# Altium footprint library LEDs.PcbLib: 46 footprints (part 1 of 3)
Each footprint in its own frame and in the unit in brackets; x right, y up, seen from the top. Pads: shape width x height; smd on the part's side, far side on the other; paste and mask are expansions set on the pad; w line width, h text height; cw(c..) or ccw(c..) is an arc to the next point about the centre after c.
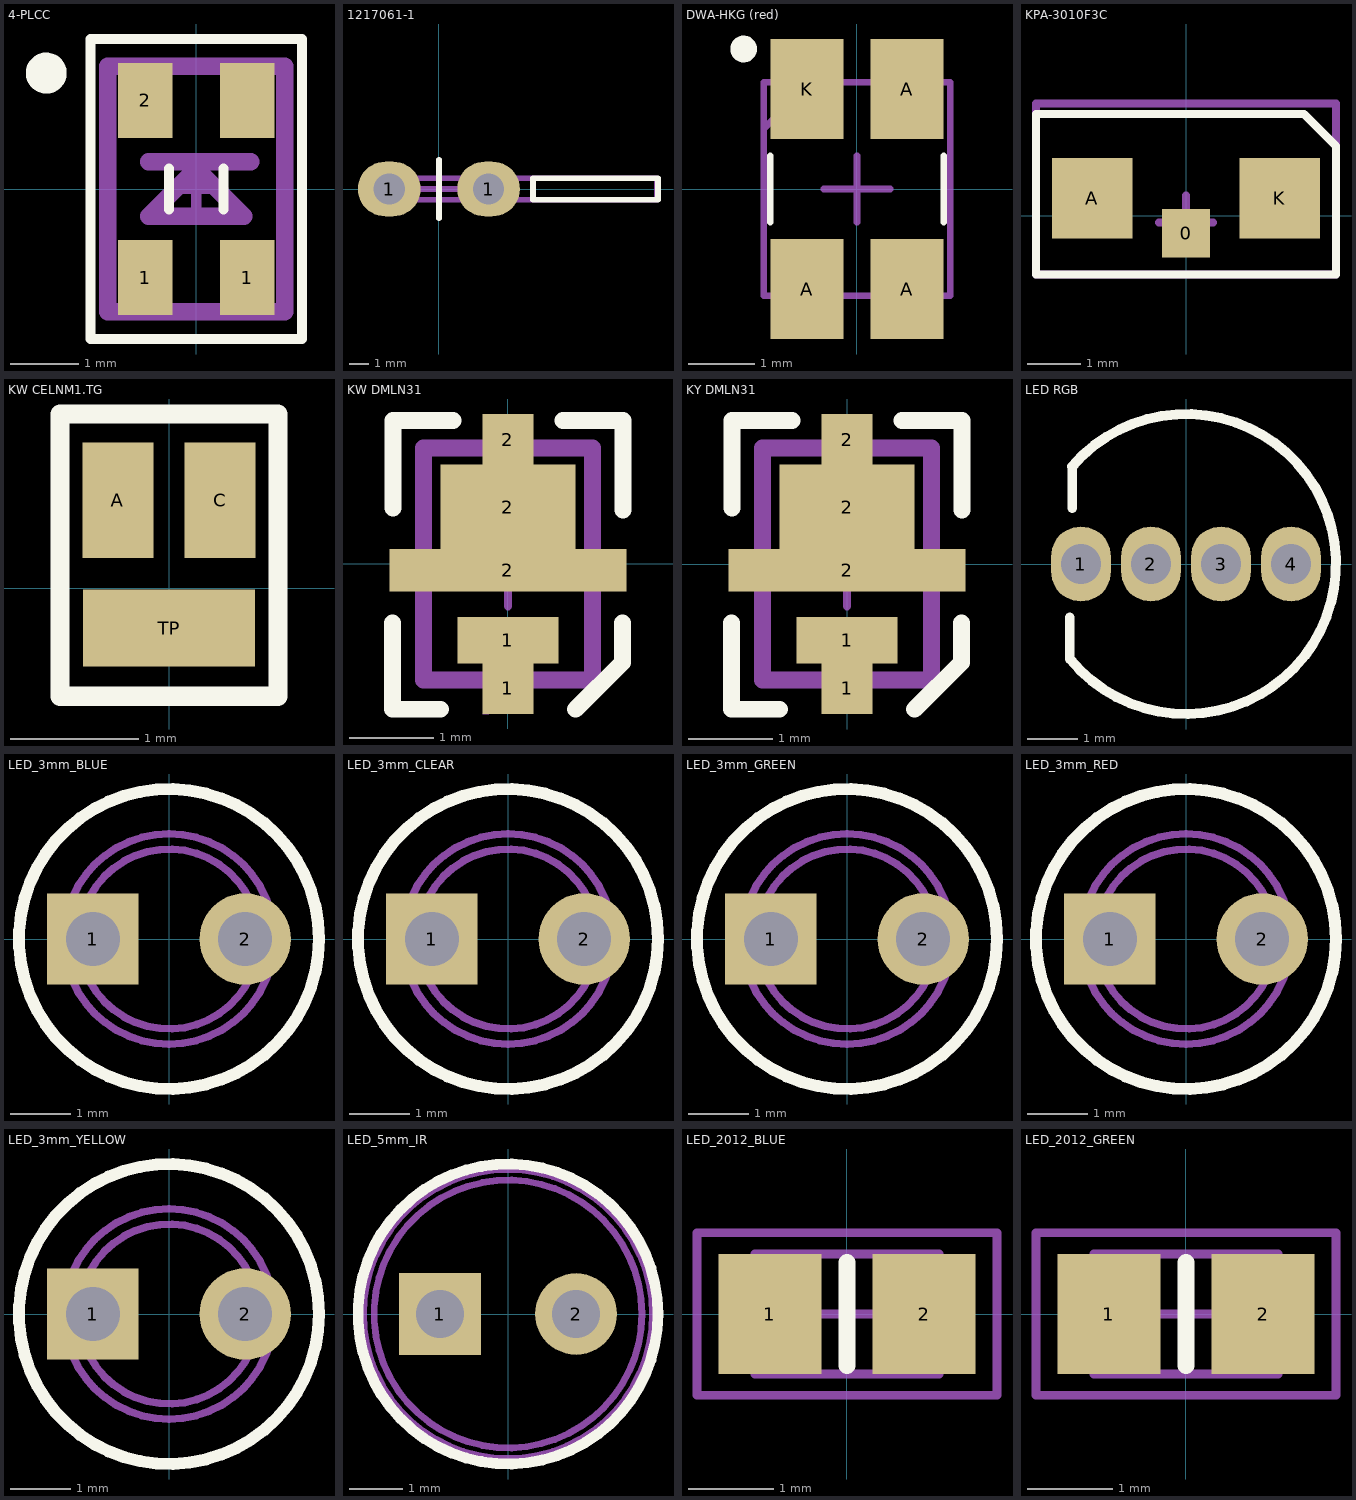
[diagram p0: the footprints below, top view; thin cyan lines are the x and y axes]

## 4-PLCC [mm]
height 2.55
pads (4):
  rect 0.8x1.1 smd: 1(-0.75,-1.3) 1(0.75,-1.3) 2(-0.75,1.3) ""(0.75,1.3)
Top Overlay:
  circle w0.3: c-2.2,1.7 r0.15
  lines w0.15: -0.4,-0.3 -0.4,0.3 ; 0.4,-0.3 0.4,0.3 ; -1.55,-2.2 1.55,-2.2 1.55,2.2 -1.55,2.2 -1.55,-2.2
Mechanical 13:
  lines w0.254: -0.7,0.4 0.8,0.4 ; -0.7,-0.4 0.7,-0.4 0,0.3 -0.7,-0.4
Mechanical 15:
  lines w0.15: -0.4,0 0.4,0 ; 0,-0.4 0,0.4
  lines w0.254: -1.3,-1.8 1.3,-1.8 1.3,1.8 -1.3,1.8 -1.3,-1.8
3D body "User Library-4-plcc_LED.step": height 2.03, standoff 0, extent -1.35,-1.75 1.35,1.75

## 1217061-1 [mm]
pads (2):
  oval 3.2x2.8 hole 1.6 mask+0.102: 1(-2.54,0) 1(2.54,0)
Top Overlay:
  lines w0.3: 0,-1.5 0,1.5 ; 4.81,-0.55 11.21,-0.55 11.21,0.55 4.81,0.55 4.81,-0.55
Mechanical 15:
  lines w0.3: -1,0 1,0 ; 0,-1 0,1 ; -3.3,-0.55 11.15,-0.55 11.15,0.55 -3.3,0.55 -3.3,-0.55
3D body "c-1217061-1-g-3d.stp": height 7.47, standoff -3.8, extent -3.54,-0.4 11.065,0.4

## DWA-HKG (red) [mm] "PLCC-4"
pads (4):
  rect 1.1x1.5 smd: A(-0.75,-1.5) A(0.75,-1.5) A(0.75,1.5) K(-0.75,1.5)
Top Overlay:
  circle w0.2: c-1.7,2.1 r0.1
  lines w0.1: -1.3,-0.5 -1.3,0.5 ; 1.3,-0.5 1.3,0.5
Mechanical 15:
  lines w0.1: -1.4,0.9 -0.7,1.6 ; -0.5,0 0.5,0 ; 0,-0.5 0,0.5 ; -1.4,-1.6 -1.4,1.6 1.4,1.6 1.4,-1.6 -1.4,-1.6
3D body "User Library-Osram_Led_PLCC4-1 (1).STEP": height 1.95, standoff 0, extent -1.4,-1.75 1.4,1.75

## KPA-3010F3C [mm]
pads (3):
  rect 0.9x0.9 smd: 0(0,-0.325)
  rect 1.5x1.5 smd: A(-1.75,0.325) K(1.75,0.325)
Top Overlay:
  lines w0.15: -2.8,-1.1 2.8,-1.1 2.8,1.3 2.2,1.9 -2.8,1.9 -2.8,-1.1
Mechanical 15:
  lines w0.15: -0.5,-0.125 0.5,-0.125 ; 0,-0.625 0,0.375 ; -2.8,-1.1 2.8,-1.1 2.8,2.1 -2.8,2.1 -2.8,-1.1
3D body "User Library-APA3010GCCK_GREEN.step": height 1, standoff 0, extent -1.5,-0.15 1.5,1.85

## KW CELNM1.TG [mm]
pads (3):
  rect 0.55x0.9 smd paste-0.1 mask+0: A(-0.397,0.685) C(0.397,0.685)
  rect 1.34x0.6 smd paste-10 mask+0: TP(0,-0.31)
Top Overlay:
  lines w0.15: -0.85,-0.843 0.85,-0.843 0.85,1.358 -0.85,1.358 -0.85,-0.843
Top Paste:
  rectangle: 0.12,-0.56 0.62,-0.061
  region: -0.12,-0.061 -0.62,-0.061 -0.62,-0.56 -0.12,-0.56
3D body "STD_SWW0CS10A_190322_R01.STEP": height 0.81, standoff 0.06, extent -0.805,-0.68 0.805,1.2

## KW DMLN31 [mm]
height 0.6
pads (5):
  rect 0.6x0.61 smd paste-2: 1(0,-1.47) 2(0,1.47)
  rect 1.2x0.55 smd paste-2: 1(0,-0.9)
  rect 2.8x0.5 smd paste-2: 2(0,-0.075)
  rect 1.6x1.01 smd paste-2: 2(0,0.67)
Top Overlay:
  lines w0.2: -1.365,-0.7 -1.365,-1.718 -0.8,-1.718 ; -1.359,0.659 -1.359,1.7 -0.65,1.7 ; 0.65,1.7 1.359,1.7 1.359,0.641 ; 0.8,-1.718 1.354,-1.164 1.354,-0.7
Top Paste:
  rectangle: -0.75,0.025 -0.1,1.125
  rectangle: -0.25,1.225 0.25,1.725
  rectangle: -0.55,-1.1 0.55,-0.675
  rectangle: -0.25,-1.725 0.25,-0.95
  region: 0.75,1.125 0.1,1.125 0.1,0.025 0.75,0.025
  rectangle: -1.1,-0.275 -0.1,0.125
  region: 1.1,0.125 0.1,0.125 0.1,-0.275 1.1,-0.275
Mechanical 15:
  lines w0.01: -0.3,-1.775 -0.225,-1.775
  lines w0.1: -0.5,0 0.5,0 ; 0,-0.5 0,0.5
  lines w0.2: -1,-1.375 -1,1.375 1,1.375 1,-1.375 -1,-1.375
3D body "KW_DMLN31.STEP": height 0.6, standoff 0, extent -1,-1.375 1,1.375

## KY DMLN31 [mm]
height 0.6
pads (5):
  rect 0.6x0.61 smd paste-2: 1(0,-1.47) 2(0,1.47)
  rect 1.2x0.55 smd paste-2: 1(0,-0.9)
  rect 2.8x0.5 smd paste-2: 2(0,-0.075)
  rect 1.6x1.01 smd paste-2: 2(0,0.67)
Top Overlay:
  lines w0.2: -1.365,-0.7 -1.365,-1.718 -0.8,-1.718 ; -1.359,0.659 -1.359,1.7 -0.65,1.7 ; 0.65,1.7 1.359,1.7 1.359,0.641 ; 0.8,-1.718 1.354,-1.164 1.354,-0.7
Top Paste:
  rectangle: -0.75,0.025 -0.1,1.125
  rectangle: -0.25,1.225 0.25,1.725
  rectangle: -0.55,-1.1 0.55,-0.675
  rectangle: -0.25,-1.725 0.25,-0.95
  region: 0.75,1.125 0.1,1.125 0.1,0.025 0.75,0.025
  rectangle: -1.1,-0.275 -0.1,0.125
  region: 1.1,0.125 0.1,0.125 0.1,-0.275 1.1,-0.275
Mechanical 15:
  lines w0.1: -0.5,0 0.5,0 ; 0,-0.5 0,0.5
  lines w0.2: -1,-1.375 -1,1.375 1,1.375 1,-1.375 -1,-1.375
3D body "KY_DMLN31.SLDPRT": height 0.6, standoff 0, extent -1,-1.375 1,1.375

## LED RGB [mm]
height 12
pads (4):
  oval 1.2x1.5 hole 0.8: 1(-2.1,0) 2(-0.7,0) 3(0.7,0) 4(2.1,0)
Top Overlay:
  lines w0.2: -2.325,-1.9 -2.325,-1.075 ; -2.318,-1.904 ccw(c0,0) -2.278,1.952 ; -2.275,1.125 -2.275,1.95
3D body "User Library-LED_5MM_RGB v4.step": height 7.99, standoff -6.7, extent -2.6,-3 3,3

## LED_3mm_BLUE [mil]
height 393.7
pads (2):
  rect 60x60 hole 35.43: 1(-50,0)
  round 60 hole 35.43: 2(50,0)
Top Overlay:
  circle w7.87: c0,0 r98.43
Mechanical 13:
  circle w5: c0,0 r69
  circle w5: c0,0 r59.01
3D body "everlight-3MM-LED-BLUE.step": height 418.76, standoff -76.03, extent -60.08,-74.81 74.8,74.8

## LED_3mm_CLEAR [mil]
height 393.7
pads (2):
  rect 60x60 hole 35.43: 1(-50,0)
  round 60 hole 35.43: 2(50,0)
Top Overlay:
  circle w7.87: c0,0 r98.43
Mechanical 13:
  circle w5: c0,0 r69
  circle w5: c0,0 r59.01
3D body "everlight-3MM-LED-CLEAR.step": height 418.76, standoff -76.03, extent -60.08,-74.81 74.8,74.8

## LED_3mm_GREEN [mil]
height 393.7
pads (2):
  rect 60x60 hole 35.43: 1(-50,0)
  round 60 hole 35.43: 2(50,0)
Top Overlay:
  circle w7.87: c0,0 r98.43
Mechanical 13:
  circle w5: c0,0 r69
  circle w5: c0,0 r59.01
3D body "everlight-3MM-LED-GREEN.step": height 418.76, standoff -76.03, extent -60.08,-74.81 74.8,74.8

## LED_3mm_RED [mil]
height 393.7
pads (2):
  rect 60x60 hole 35.43: 1(-50,0)
  round 60 hole 35.43: 2(50,0)
Top Overlay:
  circle w7.87: c0,0 r98.43
Mechanical 13:
  circle w5: c0,0 r59.01
  circle w5: c0,0 r69
3D body "everlight-3MM-LED-RED.step": height 418.76, standoff -76.03, extent -60.08,-74.81 74.8,74.8

## LED_3mm_YELLOW [mil]
height 393.7
pads (2):
  rect 60x60 hole 35.43: 1(-50,0)
  round 60 hole 35.43: 2(50,0)
Top Overlay:
  circle w7.87: c0,0 r98.43
Mechanical 13:
  circle w5: c0,0 r69
  circle w5: c0,0 r59.01
3D body "everlight-3MM-LED-YELLOW.step": height 418.76, standoff -76.03, extent -60.08,-74.81 74.8,74.8

## LED_5mm_IR [mil]
height 275.59
pads (2):
  rect 60x60 hole 35.43: 1(-50,0)
  round 60 hole 35.43: 2(50,0)
Top Overlay:
  circle w7.87: c0,0 r110.24
Mechanical 13:
  circle w5: c0,0 r106.3
  circle w5: c0,0 r98.43
3D body "User Library-ledlavanderLED.step": height 736.22, standoff -639.76, extent -100.34,-114.18 114.17,114.17

## LED_2012_BLUE [mm]
height 1.1
pads (2):
  rect 1.2x1.4 smd: 1(-0.9,0) 2(0.9,0)
Top Overlay:
  lines w0.2: 0,-0.6 0,0.6
Mechanical 13:
  lines w0.1: -0.85,-0.7 -0.85,0.7 ; 0.85,-0.7 0.85,0.7 ; -1.075,-0.7 1.075,-0.7 1.075,0.7 -1.075,0.7 -1.075,-0.7
Mechanical 15:
  lines w0.1: -0.5,0 0.5,0 ; 0,-0.5 0,0.5 ; -1.75,-0.95 1.75,-0.95 1.75,0.95 -1.75,0.95 -1.75,-0.95
3D body "everlight-17-21-0805LED-BLUE.step": height 1.1, standoff -0.01, extent -1,-0.61 1,0.64

## LED_2012_GREEN [mm]
height 1.1
pads (2):
  rect 1.2x1.4 smd: 1(-0.9,0) 2(0.9,0)
Top Overlay:
  lines w0.2: 0,-0.6 0,0.6
Mechanical 13:
  lines w0.1: -0.85,-0.7 -0.85,0.7 ; 0.85,-0.7 0.85,0.7 ; -1.075,-0.7 -1.075,0.7 1.075,0.7 1.075,-0.7 -1.075,-0.7
Mechanical 15:
  lines w0.1: -0.5,0 0.5,0 ; 0,-0.5 0,0.5 ; -1.75,-0.95 -1.75,0.95 1.75,0.95 1.75,-0.95 -1.75,-0.95
3D body "everlight-17-21-0805LED-GREEN.step": height 1.1, standoff -0.01, extent -1,-0.625 1,0.625